# Altium footprint library HB9500M952P.PcbLib: 1 footprints
Each footprint in its own frame and in the unit in brackets; x right, y up, seen from the top. Pads: shape width x height; smd on the part's side, far side on the other; paste and mask are expansions set on the pad; w line width, h text height; cw(c..) or ccw(c..) is an arc to the next point about the centre after c.
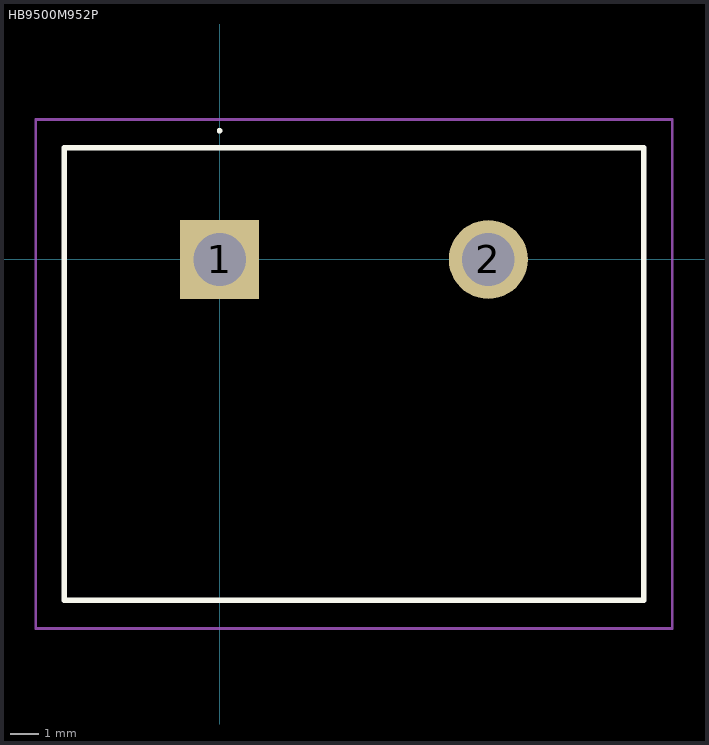
[diagram p0: the footprint, top view; thin cyan lines are the x and y axes]

## HB9500M952P [mm]
pads (2):
  rect 2.79x2.79 hole 1.86: 1(0,0)
  round 2.79 hole 1.86: 2(9.5,0)
Top Overlay:
  lines w0.1: 0,4.5 cw(c0,4.55) 0,4.6 ; 0,4.5 0,4.5 ; 0,4.5 ccw(c0,4.55) 0,4.6 ; 0,4.6 0,4.6
  lines w0.2: -5.5,-12.05 15,-12.05 15,3.95 -5.5,3.95 -5.5,-12.05
Mechanical 15:
  lines w0.1: -5.5,-12.05 15,-12.05 15,3.95 -5.5,3.95 -5.5,-12.05
Mechanical 20:
  lines w0.1: -6.5,-13.05 16,-13.05 16,4.95 -6.5,4.95 -6.5,-13.05